# Altium footprint library MoBo_PcbLib.PcbLib: 24 footprints (part 1 of 2)
Each footprint in its own frame and in the unit in brackets; x right, y up, seen from the top. Pads: shape width x height; smd on the part's side, far side on the other; paste and mask are expansions set on the pad; w line width, h text height; cw(c..) or ccw(c..) is an arc to the next point about the centre after c.
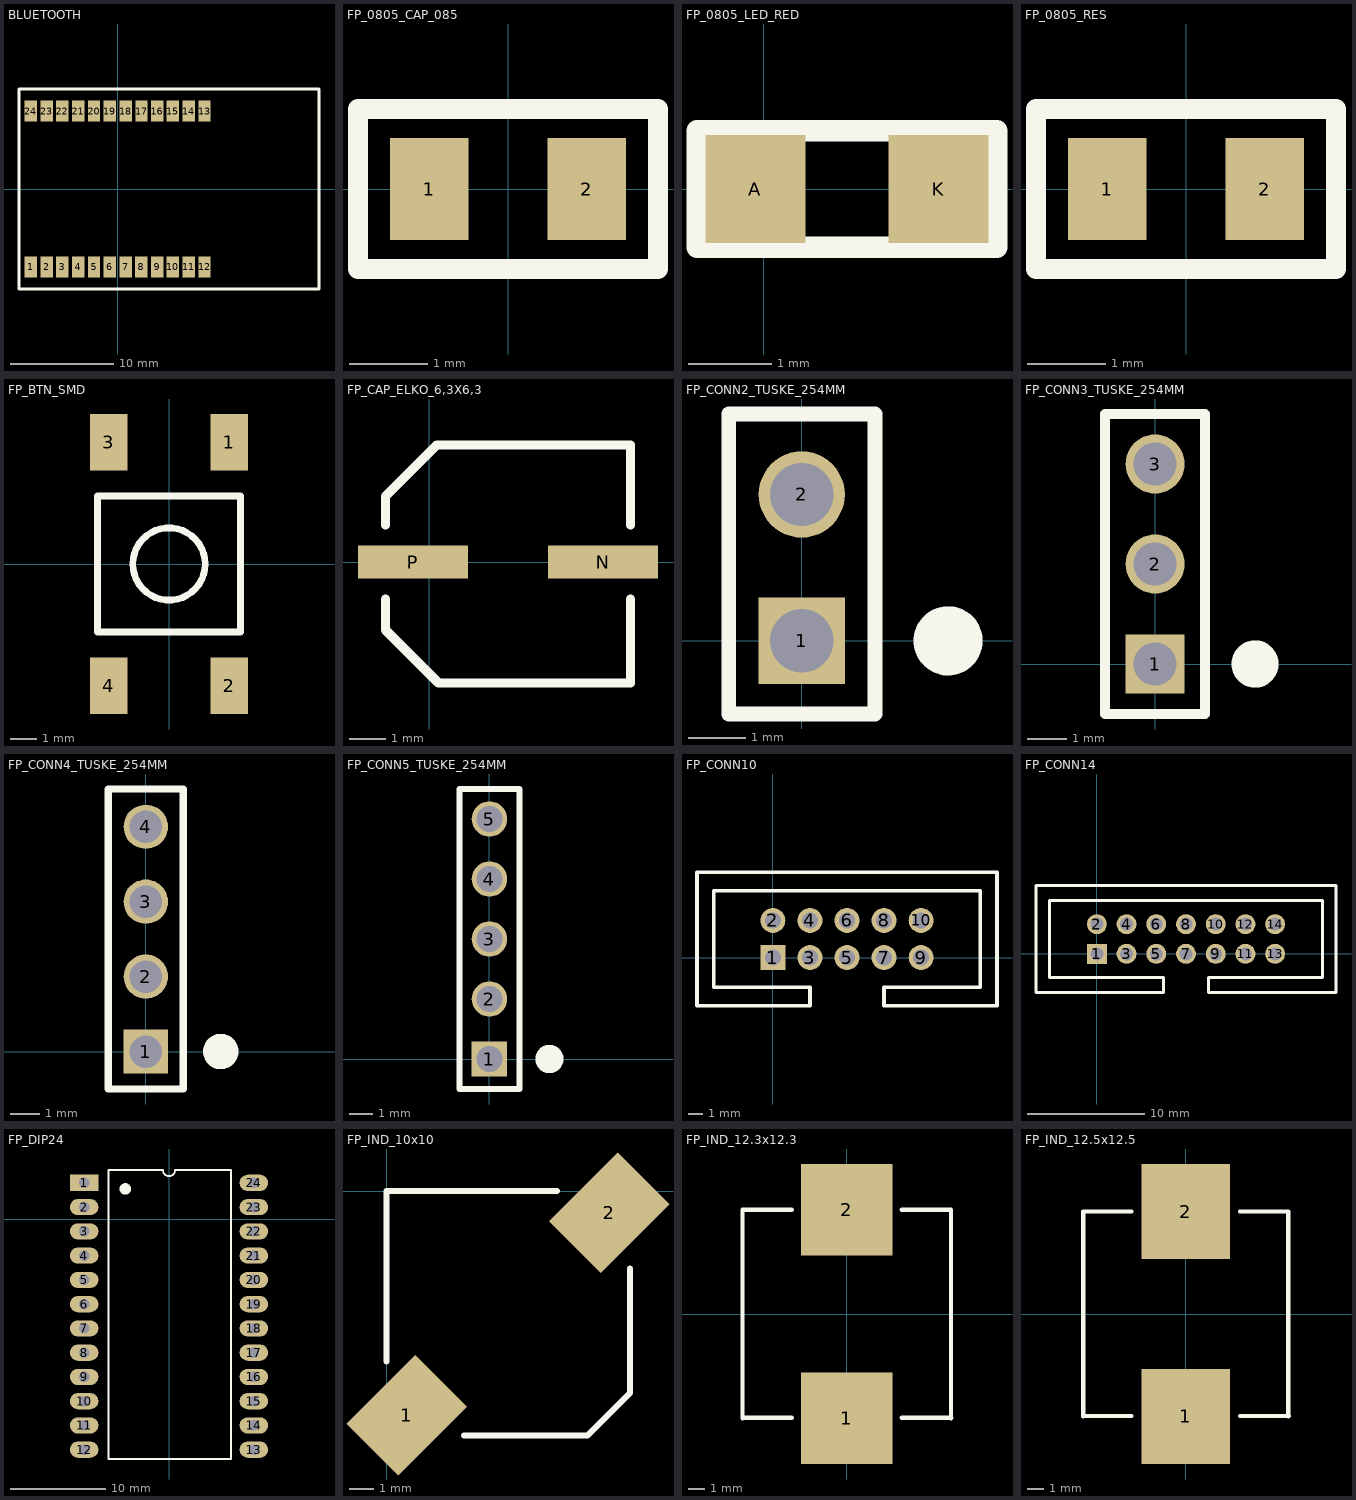
[diagram p0: the footprints below, top view; thin cyan lines are the x and y axes]

## BLUETOOTH [mm]
pads (24):
  rect 1.2x2 smd: 1(-8.382,-7.52) 2(-6.858,-7.52) 3(-5.334,-7.52) 4(-3.81,-7.52) 5(-2.286,-7.52) 6(-0.762,-7.52) 7(0.762,-7.52) 8(2.286,-7.52) 9(3.81,-7.52) 10(5.334,-7.52) 11(6.858,-7.52) 12(8.382,-7.52) 13(8.382,7.52) 14(6.858,7.52) 15(5.334,7.52) 16(3.81,7.52) 17(2.3,7.52) 18(0.762,7.52) 19(-0.762,7.52) 20(-2.286,7.52) 21(-3.81,7.52) 22(-5.334,7.52) 23(-6.858,7.52) 24(-8.382,7.52)
Top Overlay:
  lines w0.254: -9.525,-9.652 -9.525,9.652 19.431,9.652 19.431,-9.652 -9.525,-9.652

## FP_0805_CAP_085 [mm] "0805 kapacitás YAGEO 0.85mm magas"
height 0.86
pads (2):
  rect 1x1.3 smd: 1(-1,0) 2(1,0)
Top Overlay:
  lines w0.254: -1.905,-1.016 -1.905,1.016 1.905,1.016 1.905,-1.016 -1.905,-1.016
3D body: height 0.85, standoff 0, extent -0.644,-0.635 0.676,0.635
3D body: height 0.85, standoff 0, extent 0.676,-0.635 1.032,0.635
3D body: height 0.85, standoff 0, extent -1,-0.635 -0.644,0.635

## FP_0805_LED_RED [mm] "0805 méretû piros LED"
height 1
pads (2):
  rect 1.2x1.3 smd: A(-0.1,0) K(2.1,0)
Top Overlay:
  lines w0.254: 2.3,-0.7 2.3,0.7 ; -0.8,-0.7 2.8,-0.7 2.8,0.7 -0.8,0.7 -0.8,-0.7
3D body "led_0805r.STEP": height 1.1, standoff 0, extent 0.006,-0.625 2.026,0.625

## FP_0805_RES [mm] "0805 ellenállás"
height 0.5
pads (2):
  rect 1x1.3 smd: 1(-1,0) 2(1,0)
Top Overlay:
  lines w0.254: -1.905,-1.016 -1.905,1.016 1.905,1.016 1.905,-1.016 -1.905,-1.016
3D body "0805RES.STEP": height 0.62, standoff 0.02, extent -1,-0.625 1,0.625

## FP_BTN_SMD [mm] "SMD Push Button 6x6mm"
height 4
pads (4):
  rect 1.4x2.1 smd: 1(2.25,4.55) 2(2.25,-4.55) 3(-2.25,4.55) 4(-2.25,-4.55)
Top Overlay:
  circle w0.254: c0,0 r1.35
  lines w0.254: -2.667,-2.54 2.667,-2.54 2.667,2.54 -2.667,2.54 -2.667,-2.54
3D body "Push Button SMD.STEP": height 5.1, standoff -0.01, extent -3,-5 3,5

## FP_CAP_ELKO_6,3X6,3 [mm] "680 uF/SMD-NIC 47 uF/SMD-NIC ELKO 16 V 105°C 20 % KIS IMPEDANCIÁS SMD O6,3x6,3mm"
height 6.3
pads (2):
  rect 3x0.9 smd: N(4.75,0) P(-0.45,0)
Top Overlay:
  lines w0.254: -1.2,-1.016 -1.2,-1.852 0.248,-3.3 5.5,-3.3 5.5,-1.016 ; -1.2,1.016 -1.2,1.8 0.2,3.2 5.5,3.2 5.5,1.016
3D body: height 6.3, standoff 0, extent -1.1,-3.137 5.175,3.15
3D body: height 0.3, standoff 0, extent -1.25,-3.3 5.35,3.3

## FP_CONN2_TUSKE_254MM [mm] "3×1 tüskesor"
height 8.54
pads (2):
  rect 1.5x1.5 hole 1.1: 1(0,0)
  round 1.5 hole 1.1: 2(0,2.54)
Top Overlay:
  circle w0.6: c2.54,0 r0.3
  lines w0.254: -1.27,-1.27 1.27,-1.27 1.27,3.937 -1.27,3.937 -1.27,-1.27
3D body: height 8.54, standoff 2.54, extent -0.33,-0.33 0.33,0.33
3D body: height 8.54, standoff 2.54, extent -0.33,2.21 0.33,2.87
3D body: height 0, standoff -3, extent -0.33,2.21 0.33,2.87
3D body: height 0, standoff -3, extent -0.33,-0.33 0.33,0.33
3D body: height 2.54, standoff 0, extent -1.27,-1.27 1.27,3.81

## FP_CONN3_TUSKE_254MM [mm] "3×1 tüskesor"
height 8.54
pads (3):
  rect 1.5x1.5 hole 1.1: 1(0,0)
  round 1.5 hole 1.1: 2(0,2.54) 3(0,5.08)
Top Overlay:
  circle w0.6: c2.54,0 r0.3
  lines w0.254: -1.27,-1.27 1.27,-1.27 1.27,6.35 -1.27,6.35 -1.27,-1.27
3D body: height 2.54, standoff 0, extent -1.27,3.81 1.27,6.35
3D body: height 0, standoff -3, extent -0.33,4.75 0.33,5.41
3D body: height 8.54, standoff 2.54, extent -0.33,4.75 0.33,5.41
3D body: height 8.54, standoff 2.54, extent -0.33,-0.33 0.33,0.33
3D body: height 8.54, standoff 2.54, extent -0.33,2.21 0.33,2.87
3D body: height 0, standoff -3, extent -0.33,2.21 0.33,2.87
3D body: height 0, standoff -3, extent -0.33,-0.33 0.33,0.33
3D body: height 2.54, standoff 0, extent -1.27,-1.27 1.27,3.81

## FP_CONN4_TUSKE_254MM [mm] "4×1 tüskesor"
height 8.54
pads (4):
  rect 1.5x1.5 hole 1.1: 1(0,0)
  round 1.5 hole 1.1: 2(0,2.54) 3(0,5.08) 4(0,7.62)
Top Overlay:
  circle w0.6: c2.54,0 r0.3
  lines w0.254: -1.27,-1.27 1.27,-1.27 1.27,8.9 -1.27,8.9 -1.27,-1.27
3D body: height 2.54, standoff 0, extent -1.27,3.81 1.27,8.89
3D body: height 0, standoff -3, extent -0.33,4.75 0.33,5.41
3D body: height 0, standoff -3, extent -0.33,7.29 0.33,7.95
3D body: height 8.54, standoff 2.54, extent -0.33,7.29 0.33,7.95
3D body: height 8.54, standoff 2.54, extent -0.33,4.75 0.33,5.41
3D body: height 8.54, standoff 2.54, extent -0.33,-0.33 0.33,0.33
3D body: height 8.54, standoff 2.54, extent -0.33,2.21 0.33,2.87
3D body: height 0, standoff -3, extent -0.33,2.21 0.33,2.87
3D body: height 0, standoff -3, extent -0.33,-0.33 0.33,0.33
3D body: height 2.54, standoff 0, extent -1.27,-1.27 1.27,3.81

## FP_CONN5_TUSKE_254MM [mm] "5×1 tüskesor"
height 8.54
pads (5):
  rect 1.5x1.5 hole 1.1: 1(0,0)
  round 1.5 hole 1.1: 2(0,2.54) 3(0,5.08) 4(0,7.62) 5(0,10.16)
Top Overlay:
  circle w0.6: c2.54,0 r0.3
  lines w0.254: -1.27,-1.27 1.27,-1.27 1.27,11.43 -1.27,11.43 -1.27,-1.27

## FP_CONN10 [mm]
height 9.1
pads (10):
  rect 1.7x1.7 hole 1.1: 1(0,0)
  round 1.7 hole 1.1: 2(0,2.54) 3(2.54,0) 4(2.54,2.54) 5(5.08,0) 6(5.08,2.54) 7(7.62,0) 8(7.62,2.54) 9(10.16,0) 10(10.16,2.54)
Top Overlay:
  lines w0.254: -5.207,-3.302 -5.207,5.842 15.367,5.842 15.367,-3.302 7.62,-3.302 7.62,-2.032 14.224,-2.032 14.224,4.572 -4.064,4.572 -4.064,-2.032 2.54,-2.032 2.54,-3.302 -5.207,-3.302

## FP_CONN14 [mm]
height 9.1
pads (14):
  rect 1.7x1.7 hole 1.1: 1(0,0)
  round 1.7 hole 1.1: 2(0,2.54) 3(2.54,0) 4(2.54,2.54) 5(5.08,0) 6(5.08,2.54) 7(7.62,0) 8(7.62,2.54) 9(10.16,0) 10(10.16,2.54) 11(12.7,0) 12(12.7,2.54) 13(15.24,0) 14(15.24,2.54)
Top Overlay:
  lines w0.254: -5.207,-3.302 5.715,-3.302 5.715,-2.032 -4.064,-2.032 -4.064,4.572 19.304,4.572 19.304,-2.032 9.525,-2.032 9.525,-3.302 20.447,-3.302 20.447,5.842 -5.207,5.842 -5.207,-3.302

## FP_DIP24 [mm] "DIP; 28 Leads; Row Spacing 7.62 mm; Pitch 2.54 mm"
height 5.08
pads (24):
  rect 3x1.7 hole 1.1: 1(-8.89,3.81)
  oval 3x1.7 hole 1.1: 2(-8.89,1.27) 3(-8.89,-1.27) 4(-8.89,-3.81) 5(-8.89,-6.35) 6(-8.89,-8.89) 7(-8.89,-11.43) 8(-8.89,-13.97) 9(-8.89,-16.51) 10(-8.89,-19.05) 11(-8.89,-21.59) 12(-8.89,-24.13) 13(8.89,-24.13) 14(8.89,-21.59) 15(8.89,-19.05) 16(8.89,-16.51) 17(8.89,-13.97) 18(8.89,-11.43) 19(8.89,-8.89) 20(8.89,-6.35) 21(8.89,-3.81) 22(8.89,-1.27) 23(8.89,1.27) 24(8.89,3.81)
Top Overlay:
  circle w0.6: c-4.572,3.175 r0.3
  lines w0.2: -6.35,-25.089 -1.325,-25.089 1.325,-25.089 6.477,-25.089 6.477,5.15 0.635,5.15 cw(c0,5.15) -0.635,5.15 -6.35,5.15 -6.35,-25.089

## FP_IND_10x10 [mm] "Inductor"
height 10
pads (2):
  rect 3x4 smd rot 135: 1(0.826,-9.207) 2(9.144,-0.889)
Top Overlay:
  lines w0.254: 0,-6.985 0,-0.033 ; 0,0 6.985,0 ; 3.175,-10.033 8.255,-10.033 10,-8.288 10,-3.175

## FP_IND_12.3x12.3 [mm] "Inductor"
height 10
pads (2):
  rect 5.5x5.5 smd: 1(0,-6.25) 2(0,6.25)
Top Overlay:
  lines w0.254: -6.25,-6.25 -6.25,6.25 -3.302,6.25 ; -6.223,-6.223 -3.302,-6.223 ; 3.302,-6.223 6.277,-6.223 ; 3.302,6.25 6.25,6.25 6.25,-6.25

## FP_IND_12.5x12.5 [mm] "Inductor"
height 10
pads (2):
  rect 5.4x5.8 smd: 1(0,-6.25) 2(0,6.25)
Top Overlay:
  lines w0.254: -6.25,-6.25 -6.25,6.25 -3.302,6.25 ; -6.223,-6.223 -3.302,-6.223 ; 3.302,-6.223 6.277,-6.223 ; 3.302,6.25 6.25,6.25 6.25,-6.25